# Altium footprint library PowerLoadAdjustableModule.PcbLib: 49 footprints (part 4 of 4)
Each footprint in its own frame and in the unit in brackets; x right, y up, seen from the top. Pads: shape width x height; smd on the part's side, far side on the other; paste and mask are expansions set on the pad; w line width, h text height; cw(c..) or ccw(c..) is an arc to the next point about the centre after c.
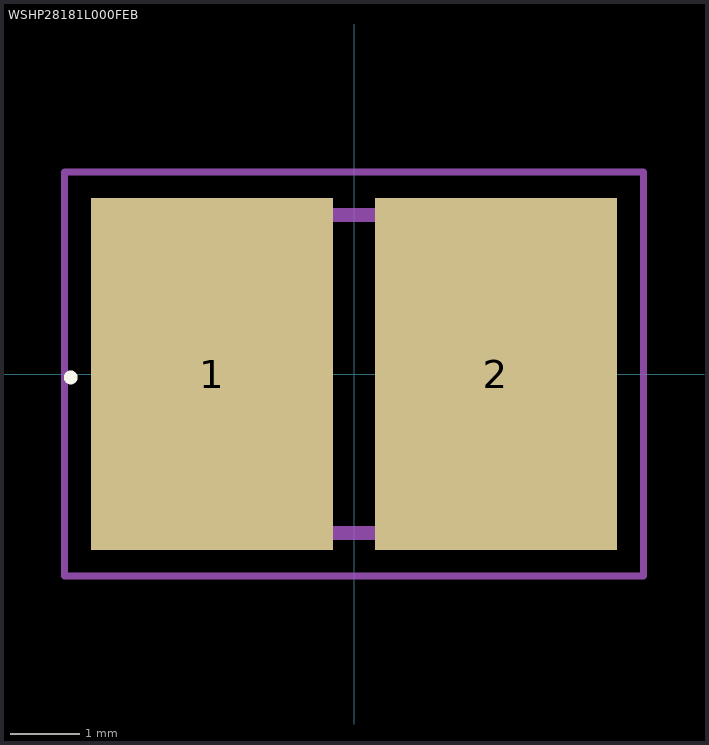
[diagram p3: the footprint, top view; thin cyan lines are the x and y axes]

## WSHP28181L000FEB [mm]
pads (2):
  rect 3.5x5.1 smd: 1(-2.055,0) 2(2.055,0)
Top Overlay:
  lines w0.1: -4.1,-0.1 ccw(c-4.1,-0.05) -4.1,0 ccw(c-4.1,-0.05) -4.1,-0.1
Top 3D Body:
  lines w0.2: -3.55,-2.3 3.55,-2.3 3.55,2.3 -3.55,2.3 -3.55,-2.3
Top Courtyard:
  lines w0.1: -4.191,-2.921 4.191,-2.921 4.191,2.921 -4.191,2.921 -4.191,-2.921
3D body "WSHP2818R0100FEA.stp": height 1.5, standoff 0, extent -3.718,-2.3 3.378,2.3